# Altium footprint library RFComponents.PcbLib: 19 footprints (part 2 of 2)
Each footprint in its own frame and in the unit in brackets; x right, y up, seen from the top. Pads: shape width x height; smd on the part's side, far side on the other; paste and mask are expansions set on the pad; w line width, h text height; cw(c..) or ccw(c..) is an arc to the next point about the centre after c.
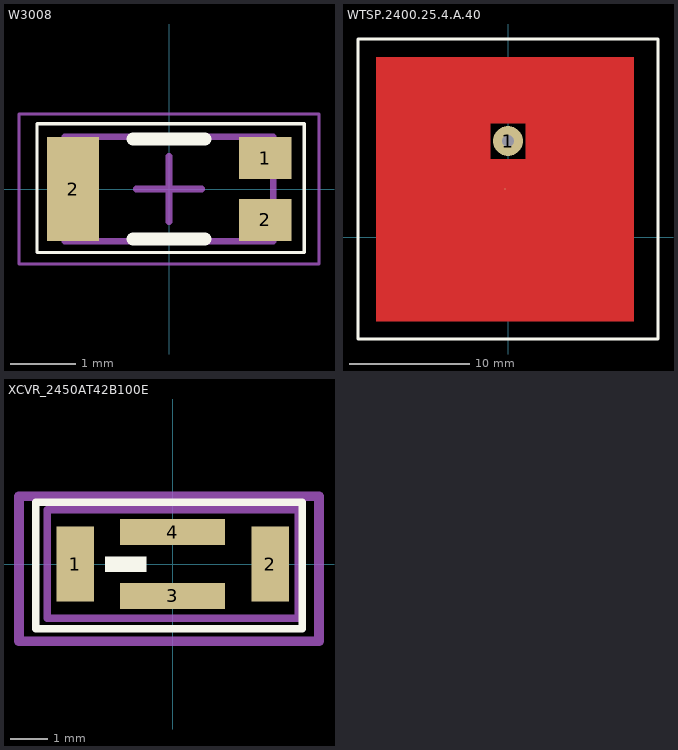
[diagram p1: the footprints below, top view; thin cyan lines are the x and y axes]

## W3008 [mm] "Bluetooth / WLAN / WiFi  Ceramic Chip Antenna, 2-Leads, Body 3.20x1.60mm, IPC Medium Density"
height 1.1
pads (3):
  rect 0.8x0.65 smd: 1(1.475,0.475) 2(1.475,-0.475)
  rect 0.8x1.6 smd: 2(-1.47,0)
Top Overlay:
  lines w0.05: -2.025,-0.975 2.075,-0.975 2.075,1 -2.025,1 -2.025,-0.975
  lines w0.2: -0.55,-0.77 0.55,-0.77 ; -0.55,0.77 0.55,0.77
Mechanical 13:
  lines w0.1: -1.6,-0.8 1.6,-0.8 1.6,0.8 -1.6,0.8 -1.6,-0.8
Mechanical 15:
  lines w0.05: -2.3,-1.15 -2.3,1.15 2.3,1.15 2.3,-1.15 -2.3,-1.15
  lines w0.1: -0.5,0 0.5,0 ; 0,-0.5 0,0.5
Mechanical 29:
  lines w0.05: -2.3,-1.15 -2.3,1.15 2.3,1.15 2.3,-1.15 -2.3,-1.15
  text ".Designator" at -0.425,-0.25 h0.5
3D body "W3008.step": height 1.1, standoff 0, extent -1.6,-0.8 1.6,0.8

## WTSP.2400.25.4.A.40 [mm] "25mm Embedded 2.4GHz Wi-Fi® Terrablast Extremely Light Patch Antenna"
pads (2):
  round 2.5 hole 1 unplated: 1(0,8)
  round 0.025 smd paste-1000 mask-1000: 2(-0.25,4)
Top Layer:
  region: 10.5,9.5 -1.5,9.5 -1.5,6.5 1.5,6.5 1.5,9.5 10.5,9.5 10.5,-7 -11,-7 -11,15 10.5,15
Top Overlay:
  lines w0.254: -12.5,-8.5 -12.5,16.5 12.5,16.5 12.5,-8.5 -12.5,-8.5
Mechanical 15:
  circle w0.3: c0,0 r1.5
3D body "WTSP.2400.25.4.A.40_Web.STEP": height 4.8, standoff -1.3, extent -12.55,-8.55 14.95,16.55

## XCVR_2450AT42B100E [mm]
pads (4):
  rect 1x2 smd: 1(-2.6,0) 2(2.6,0)
  rect 2.8x0.7 smd: 3(0,-0.85) 4(0,0.85)
Top Overlay:
  region: -0.7,-0.2 -1.803,-0.2 -1.803,0.2 -0.7,0.2
  lines w0.2: -3.65,-1.725 -3.65,1.65 3.45,1.65 3.45,-1.725 -3.65,-1.725
Mechanical 2:
  lines w0.254: -4.1,-2.055 -4.1,1.805 3.9,1.805 3.9,-2.055 -4.1,-2.055
Mechanical 15:
  lines w0.2: -3.35,-1.45 -3.35,1.45 3.35,1.45 3.35,-1.45 -3.35,-1.45
Multi-Layer:
  pour cut-out: -4.1,1.825 3.9,1.825 3.9,-2.03 -4.1,-2.03
Mechanical 29:
  lines w0.2: -3.35,-1.45 3.35,-1.45 3.35,1.45 -3.35,1.45 -3.35,-1.45
  text ".Designator" at -1.246,-0.588 h1.52
3D body "2450AT42B100E--3DModel-STEP-56544.STEP": height 2.15, standoff 0.05, extent -2.5,-1 2.5,1